# EAGLE library part 78F0893_GAK_AX (library Renesas_78k0_0_2)
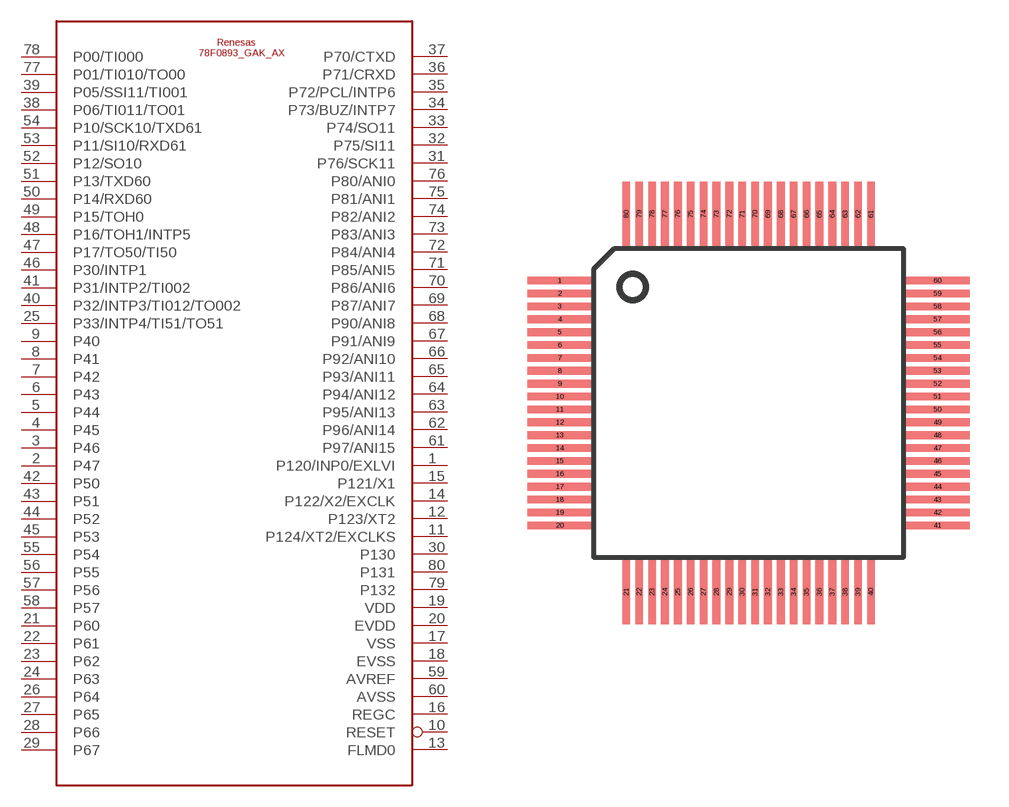
[diagram p0: symbol with the pads of LQFP80; footprint LQFP80]

Designator prefix -

## 78F0893_GAK_AX  [LQFP80]
1  P120/INP0/EXLVI
2  P47
3  P46
4  P45
5  P44
6  P43
7  P42
8  P41
9  P40
10  RESET
11  P124/XT2/EXCLKS
12  P123/XT2
13  FLMD0
14  P122/X2/EXCLK
15  P121/X1
16  REGC
17  VSS  pwr
18  EVSS  pwr
19  VDD  pwr
20  EVDD  pwr
21  P60
22  P61
23  P62
24  P63
25  P33/INTP4/TI51/TO51
26  P64
27  P65
28  P66  in
29  P67
30  P130  out
31  P76/SCK11
32  P75/SI11
33  P74/SO11
34  P73/BUZ/INTP7
35  P72/PCL/INTP6
36  P71/CRXD
37  P70/CTXD
38  P06/TI011/TO01
39  P05/SSI11/TI001
40  P32/INTP3/TI012/TO002
41  P31/INTP2/TI002
42  P50
43  P51
44  P52
45  P53
46  P30/INTP1
47  P17/TO50/TI50
48  P16/TOH1/INTP5
49  P15/TOH0
50  P14/RXD60
51  P13/TXD60
52  P12/SO10
53  P11/SI10/RXD61
54  P10/SCK10/TXD61
55  P54
56  P55
57  P56
58  P57
59  AVREF  pwr
60  AVSS  pwr
61  P97/ANI15
62  P96/ANI14
63  P95/ANI13
64  P94/ANI12
65  P93/ANI11
66  P92/ANI10
67  P91/ANI9
68  P90/ANI8
69  P87/ANI7
70  P86/ANI6
71  P85/ANI5
72  P84/ANI4
73  P83/ANI3
74  P82/ANI2
75  P81/ANI1
76  P80/ANI0
77  P01/TI010/TO00
78  P00/TI000
79  P132
80  P131

## Footprint LQFP80 (pad centres in mm)
LQFP80 - Low Profile Quad Flat Package 12x12x1.4 mm SOT315-1
smd 2.516 x 0.3: 1 -7.333,4.75; 2 -7.333,4.25; 3 -7.333,3.75; 4 -7.333,3.25; 5 -7.333,2.75; 6 -7.333,2.25; 7 -7.333,1.75; 8 -7.333,1.25; 9 -7.333,0.75; 10 -7.333,0.25; 11 -7.333,-0.25; 12 -7.333,-0.75; 13 -7.333,-1.25; 14 -7.333,-1.75; 15 -7.333,-2.25; 16 -7.333,-2.75; 17 -7.333,-3.25; 18 -7.333,-3.75; 19 -7.333,-4.25; 20 -7.333,-4.75; 41 7.333,-4.75; 42 7.333,-4.25; 43 7.333,-3.75; 44 7.333,-3.25; 45 7.333,-2.75; 46 7.333,-2.25; 47 7.333,-1.75; 48 7.333,-1.25; 49 7.333,-0.75; 50 7.333,-0.25; 51 7.333,0.25; 52 7.333,0.75; 53 7.333,1.25; 54 7.333,1.75; 55 7.333,2.25; 56 7.333,2.75; 57 7.333,3.25; 58 7.333,3.75; 59 7.333,4.25; 60 7.333,4.75
smd 0.3 x 2.516: 21 -4.75,-7.333; 22 -4.25,-7.333; 23 -3.75,-7.333; 24 -3.25,-7.333; 25 -2.75,-7.333; 26 -2.25,-7.333; 27 -1.75,-7.333; 28 -1.25,-7.333; 29 -0.75,-7.333; 30 -0.25,-7.333; 31 0.25,-7.333; 32 0.75,-7.333; 33 1.25,-7.333; 34 1.75,-7.333; 35 2.25,-7.333; 36 2.75,-7.333; 37 3.25,-7.333; 38 3.75,-7.333; 39 4.25,-7.333; 40 4.75,-7.333; 61 4.75,7.333; 62 4.25,7.333; 63 3.75,7.333; 64 3.25,7.333; 65 2.75,7.333; 66 2.25,7.333; 67 1.75,7.333; 68 1.25,7.333; 69 0.75,7.333; 70 0.25,7.333; 71 -0.25,7.333; 72 -0.75,7.333; 73 -1.25,7.333; 74 -1.75,7.333; 75 -2.25,7.333; 76 -2.75,7.333; 77 -3.25,7.333; 78 -3.75,7.333; 79 -4.25,7.333; 80 -4.75,7.333